# Altium schematic symbol library L.SchLib: 1 symbol
Pins are listed as number, name and electrical type; pins without a type are passive.

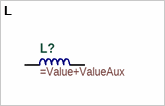
[diagram p0: symbol L]

## L
designator L?
=Description
pins: 1, 2